# EAGLE library part 74*595R (library dl)
Portexpander 8-bit-Schieberegister mit parallelen Ausgabe-Flipflops Anschlussvariante mit geerdetem Power-Pad (Gehäusevariante von Texas Instruments)
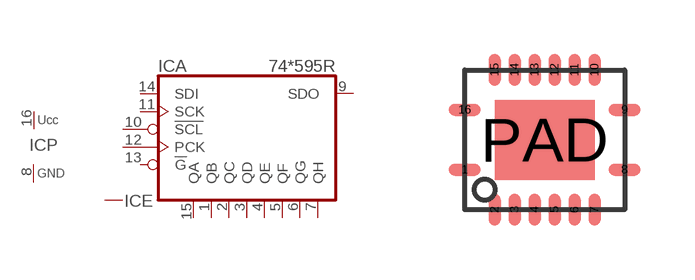
[diagram p7: symbol with the pads of QFN16; footprint QFN16]

Designator prefix IC; gates E=ELLIPSE-PIN A=74595 P=PWRN

## 74LV595R  [QFN16]
1  A:QB  hiz
2  A:QC  hiz
3  A:QD  hiz
4  A:QE  hiz
5  A:QF  hiz
6  A:QG  hiz
7  A:QH  hiz
8  P:GND  pwr
9  A:SDO  hiz
10  A:!SCL  in
11  A:SCK  in
12  A:PCK  in
13  A:!G  in
14  A:SDI  in
15  A:QA  hiz
16  P:5P  pwr
PAD  E:1  pas

## Footprint QFN16 (pad centres in mm)
Plastic Quad Flatpack 16pin e = 0.5 mm TI-Version, nicht NXP-kompatibel! Nicht quadratisch, sondern rechteckig!
smd 0.8 x 0.3: 1 -2,-0.75; 8 2,-0.75; 9 2,0.75; 16 -2,0.75
smd 0.3 x 0.8: 2 -1.25,-1.75; 3 -0.75,-1.75; 4 -0.25,-1.75; 5 0.25,-1.75; 6 0.75,-1.75; 7 1.25,-1.75; 10 1.25,1.75; 11 0.75,1.75; 12 0.25,1.75; 13 -0.25,1.75; 14 -0.75,1.75; 15 -1.25,1.75
smd 2.5 x 2: PAD 0,0